# EAGLE library part MH6-1 (library l3lanSpy)
6x1 Pin Male Header
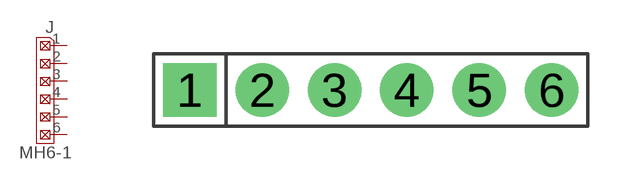
[diagram p0: symbol with the pads of MH6-1-0.1; footprint MH6-1-0.1]

Designator prefix J

## MH6-1  [MH6-1-0.1]
1  1  pas
2  2  pas
3  3  pas
4  4  pas
5  5  pas
6  6  pas

## Footprint MH6-1-0.1 (pad centres in mm)
1x6 Pin Male Header, 0.1" Pitch
drill 1 pad 1.88 square: 1 0,0
drill 1 pad 1.88: 2 2.54,0; 3 5.08,0; 4 7.62,0; 5 10.16,0; 6 12.7,0